# EAGLE library part CAN_MCP2562 (library RPI_CAN)
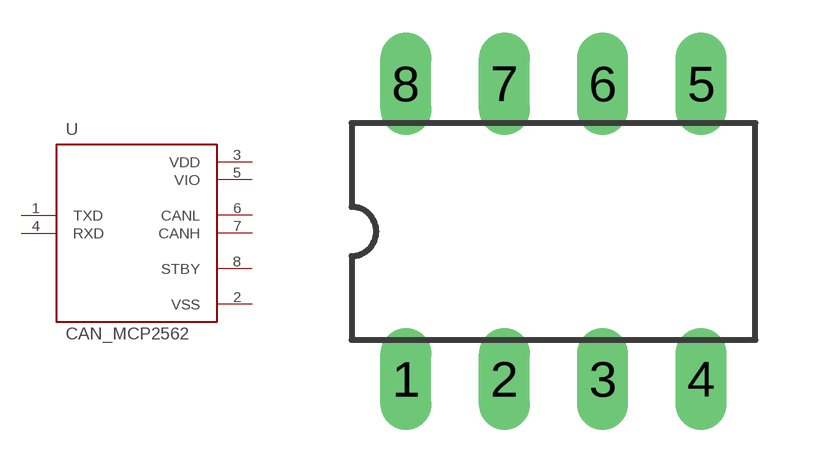
[diagram p1: symbol with the pads of CAN_DIL08; footprint CAN_DIL08]

Designator prefix U

## CAN_MCP2562DIL08_2  [CAN_DIL08]
1  TXD
2  VSS
3  VDD
4  RXD
5  VIO
6  CANL
7  CANH
8  STBY

## Footprint CAN_DIL08 (pad centres in mm)
drill 0.813 long: 1 -3.81,-3.81; 2 -1.27,-3.81; 3 1.27,-3.81; 4 3.81,-3.81; 5 3.81,3.81; 6 1.27,3.81; 7 -1.27,3.81; 8 -3.81,3.81